# EAGLE library part RN52 (library RN52)
RN-52 Bluetooth Module
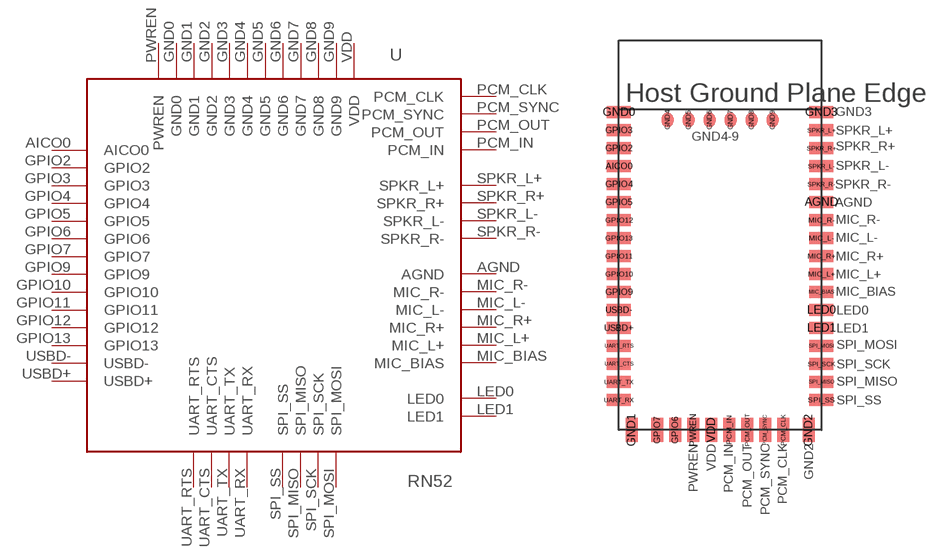
[diagram p0: symbol with the pads of RN52; footprint RN52]

Designator prefix -

## RN52 (DIGIKEY_OC: RN52-I/RM-ND)  [RN52]
AGND  AGND
AICO0  AICO0
GND0  GND0
GND1  GND1
GND2  GND2
GND3  GND3
GND4  GND4
GND5  GND5
GND6  GND6
GND7  GND7
GND8  GND8
GND9  GND9
GPIO2  GPIO2
GPIO3  GPIO3
GPIO4  GPIO4
GPIO5  GPIO5
GPIO6  GPIO6
GPIO7  GPIO7
GPIO9  GPIO9
GPIO10  GPIO10
GPIO11  GPIO11
GPIO12  GPIO12
GPIO13  GPIO13
LED0  LED0
LED1  LED1
MIC_BIAS  MIC_BIAS
MIC_L+  MIC_L+
MIC_L-  MIC_L-
MIC_R+  MIC_R+
MIC_R-  MIC_R-
PCM_CLK  PCM_CLK
PCM_IN  PCM_IN
PCM_OUT  PCM_OUT
PCM_SYNC  PCM_SYNC
PWREN  PWREN
SPI_MISO  SPI_MISO
SPI_MOSI  SPI_MOSI
SPI_SCK  SPI_SCK
SPI_SS  SPI_SS
SPKR_L+  SPKR_L+
SPKR_L-  SPKR_L-
SPKR_R+  SPKR_R+
SPKR_R-  SPKR_R-
UART_CTS  UART_CTS
UART_RTS  UART_RTS
UART_RX  UART_RX
UART_TX  UART_TX
USBD+  USBD+
USBD-  USBD-
VDD  VDD

## Footprint RN52 (pad centres in mm)
smd 1.6 x 0.8: AGND 13.5,15.2; AICO0 0,17.6; GND0 0,21.2; GND3 13.5,21.2; GPIO2 0,18.8; GPIO3 0,20; GPIO4 0,16.4; GPIO5 0,15.2; GPIO9 0,9.2; GPIO10 0,10.4; GPIO11 0,11.6; GPIO12 0,14; GPIO13 0,12.8; LED0 13.5,8; LED1 13.5,6.8; MIC_BIAS 13.5,9.2; MIC_L+ 13.5,10.4; MIC_L- 13.5,12.8; MIC_R+ 13.5,11.6; MIC_R- 13.5,14; SPI_MISO 13.5,3.2; SPI_MOSI 13.5,5.6; SPI_SCK 13.5,4.4; SPI_SS 13.5,2; SPKR_L+ 13.5,20; SPKR_L- 13.5,17.6; SPKR_R+ 13.5,18.8; SPKR_R- 13.5,16.4; UART_CTS 0,4.4; UART_RTS 0,5.6; UART_RX 0,2; UART_TX 0,3.2; USBD+ 0,6.8; USBD- 0,8
smd 0.8 x 1.6: GND1 0.85,0; GND2 12.65,0; GPIO6 3.75,0; GPIO7 2.55,0; PCM_CLK 10.95,0; PCM_IN 7.35,0; PCM_OUT 8.55,0; PCM_SYNC 9.75,0; PWREN 4.95,0; VDD 6.15,0
smd 0.8 x 1: GND4 3.25,20.7; GND5 4.65,20.7; GND6 6.05,20.7; GND7 7.45,20.7; GND8 8.85,20.7; GND9 10.25,20.7